# Altium schematic symbol library BuckBoostInductorTPS63051RMWR.SchLib: 1 symbol
Pins are listed as number, name and electrical type; pins without a type are passive.

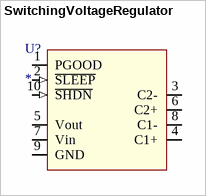
[diagram p0: symbol SwitchingVoltageRegulator]

## SwitchingVoltageRegulator
designator U?
footprint SON50P300X100_HS-11M (SON, 10-Leads, Body 3.00x3.00mm, Pitch 0.50mm, Thermal Pad 1.50x1.44mm, IPC Low Density)
pins: 1 PGOOD (oc), 2 ~{SLEEP} (in), 3 C2-, 4 C1+, 5 Vout (power), 6 C2+, 7 Vin (power), 8 C1-, 9 GND (power), 10 ~{SHDN} (in)